# Altium schematic symbol library Schlib1.SchLib: 37 symbols (part 1 of 2)
Pins are listed as number, name and electrical type; pins without a type are passive.

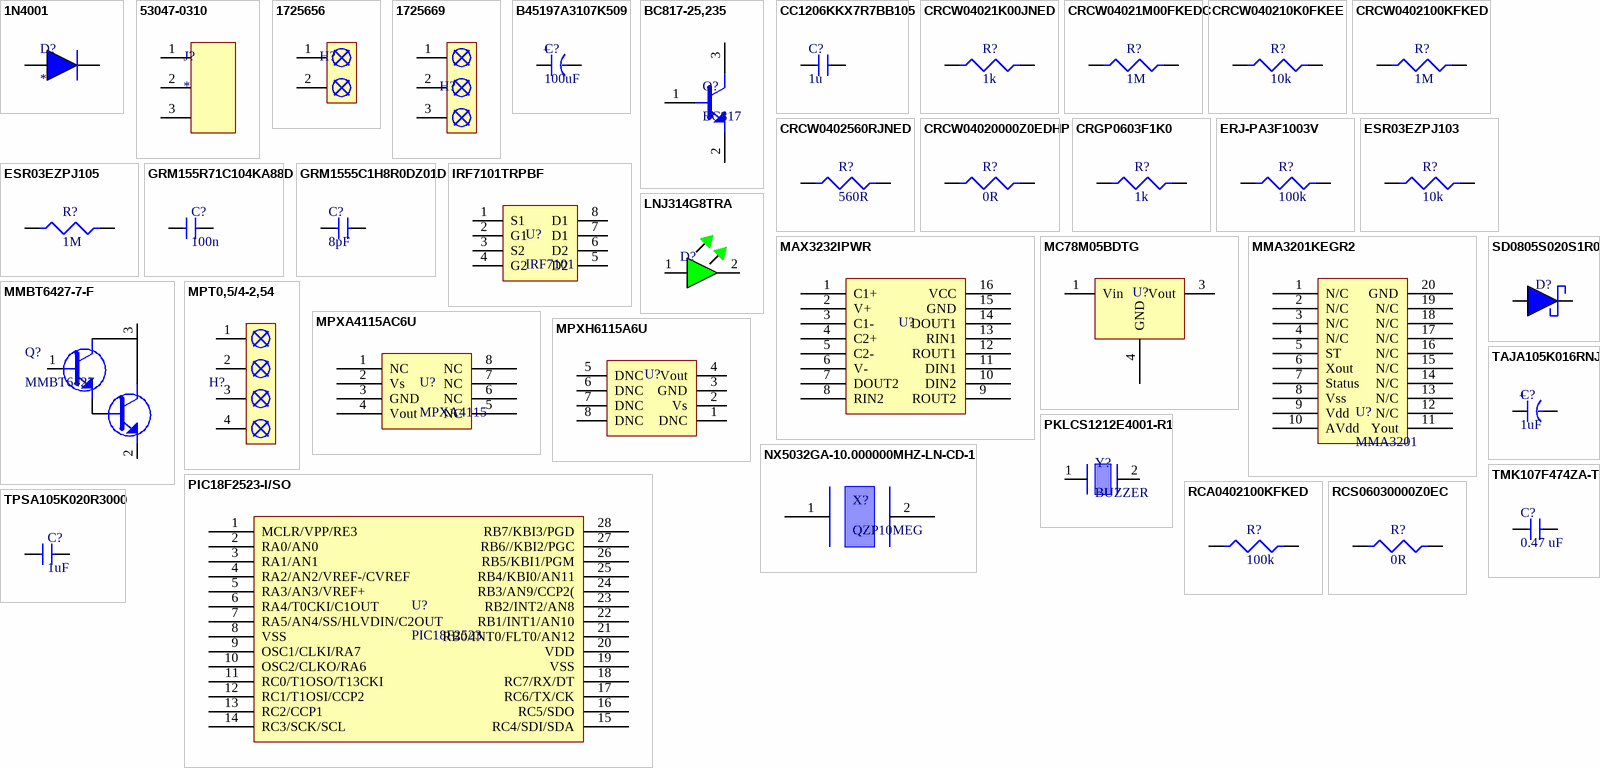
[diagram p0: symbols 1N4001 to TPSA105K020R3000]

## 1N4001
designator D?
Rectifier Diode, 1 Element, 1A, 50V V(RRM), Silicon, DO-41; Manufacturer: Diotec; Manufacturer Part Number: 1N4001; Polarity: Standard; Supplier: Mouser; Supplier Part Number: 637-1N4001; RoHS: Yes; Category: Rectifier Diodes; Stock: 125636; Pricing: 1=0,1, 10=0,055, 50=0,055, 100=0,046, 500=0,028, 1000=0,022, 5000=0,02, 10000=0,016, 25000=0,014, 50000=0,013 (USD); Mounting Technology: Through Hole; Min Operating Temperature: -50°C; Max Operating Temperature: 175°C; Packaging: Ammo Pack; RoHS Compliant: Yes; ComponentLink1URL: https://datasheet.ciiva.com/26325/162213-da-01-ml-1n4001-silizium-diode-de-en-26325273.pdf?src-supplier=Conrad; ComponentLink1Description: https://datasheet.ciiva.com/26325/162213-da-01-ml-1n4001-silizium-diode-de-en-26325273.pdf?src-supplier=Conrad; ComponentLink2URL: https://datasheet.ciiva.com/18711/1n400x-eng-tds-18711212.pdf?src-supplier=Distrelec; ComponentLink2Description: https://datasheet.ciiva.com/18711/1n400x-eng-tds-18711212.pdf?src-supplier=Distrelec
footprint 1N4001_true
pins: 1, 2

## 53047-0310
designator J?
Conn Shrouded Header (4 Sides) HDR 3 POS 1.25mm Solder ST Thru-Hole PicoBlade Tray; Manufacturer: Molex; Manufacturer Part Number: 53047-0310; Body Plating: Tin; Contact Resistance: 20mR; Number of Contacts: 3; Current Rating: 1A; Voltage Rating (AC): 125V; Insulation Resistance: 100MR; Gender: Male; Glow Wire Compliant: Non-compliant; Supplier: Mouser; Supplier Part Number: 538-53047-0310; RoHS: Yes; Category: Headers and Wire Housings; Stock: 37189; Pricing: 1=0,21, 10=0,121, 50=0,121, 100=0,114, 1000=0,107, 10000=0,101 (USD); Mounting Technology: Through Hole; Contact Plating: Tin; Contact Material: Bronze,Tin; Color: Natural; Housing Color: Natural; Housing Material: Polyamide; Plating: Tin; Min Operating Temperature: -40°C; Max Operating Temperature: 85°C; Termination: Solder; Orientation: Vertical; Number of Rows: 1; Packaging: Tray; Package Quantity: 5000; Number of Positions: 3; Series: PicoBlade; Number of Poles: 3; Voltage Rating: 125V; Working Voltage: 125V; Voltage Rating (DC): 125V; Number of Circuits: 3; Pitch: 1.25mm; Lead Pitch: 1.25mm; Radiation Hardening: No; RoHS Compliant: Yes; Lead Free: Lead Free; Flammability Rating: UL94 V-0; Reach SVHC Compliant: No; ComponentLink1URL: https://datasheet.ciiva.com/11746/0900766b800a8aab-11746220.pdf?src-supplier=Rs; ComponentLink1Description: https://datasheet.ciiva.com/11746/0900766b800a8aab-11746220.pdf?src-supplier=Rs; ComponentLink2URL: https://datasheet.ciiva.com/25291/1755268-25291356.pdf?src-supplier=Newark; ComponentLink2Description: https://datasheet.ciiva.com/25291/1755268-25291356.pdf?src-supplier=Newark; ComponentLink3URL: https://datasheet.ciiva.com/5152/0530470310-pcb-headers-170987-5152292.pdf?src-supplier=Mouser; ComponentLink3Description: https://datasheet.ciiva.com/5152/0530470310-pcb-headers-170987-5152292.pdf?src-supplier=Mouser; ComponentLink4URL: https://datasheet.ciiva.com/10090/0530470310-pcb-headers-10090492.pdf?src-supplier=Avnet; ComponentLink4Description: https://datasheet.ciiva.com/10090/0530470310-pcb-headers-10090492.pdf?src-supplier=Avnet; ComponentLink5URL: https://datasheet.ciiva.com/30213/39650530470310-pcb-headers-30213783.pdf?src-supplier=Onlinecomponents.com; ComponentLink5Description: https://datasheet.ciiva.com/30213/39650530470310-pcb-headers-30213783.pdf?src-supplier=Onlinecomponents.com; ComponentLink6URL: https://datasheet.ciiva.com/7810/1755268-7810375.pdf?src-supplier=Element14; ComponentLink6Description: https://datasheet.ciiva.com/7810/1755268-7810375.pdf?src-supplier=Element14; ComponentLink7URL: https://datasheet.ciiva.com/14156/ge116819-116832-e-14156234.pdf?src-supplier=Distrelec; ComponentLink7Description: https://datasheet.ciiva.com/14156/ge116819-116832-e-14156234.pdf?src-supplier=Distrelec
footprint 0530470310
pins: 1, 2, 3

## 1725656
designator H?
Block, Terminal; 6 A; 63 V; 2.54 mm; 26 to 20 AWG; 2; Screw; Soldering; 1.5 kV; Manufacturer: Phoenix Contact; Manufacturer Part Number: 1725656; Number of Poles: 2; Voltage Rating: 125V; Max Current Rating: 6A; Max Supply Voltage: 63V; Number of Levels: 1; Connector Type: Screw,PCB,Terminal Block; Wire Gauge (Max): 26AWG; Wire Gauge (Min): 20AWG; Pitch: 2.54mm; Stripping Length: 4.5mm; Approvals: UL,CSA,cULus,EAC; Supplier 1: Mouser; RoHS: Yes; Category: Terminal Blocks; Stock 1: 18801; Pricing 1: 1=1,66, 10=1,14, 50=1,14, 100=1,14, 1000=1,13, 10000=1,13 (USD); Mount: Through Hole; Number of Pins: 2; Color: Green; Weight: 0.022575oz; Housing Material: Polyamide; Contact Material: Tin; Housing Color: 49Colour; Insulation Material: 4261ConductorMaterial; Termination: Solder; Orientation: Straight; Package Quantity: 50; Packaging: Bulk; Number of Rows: 1; Current Rating: 6A; Number of Positions Per Level: 2; Current: 6A; Voltage: 125V; Number of Positions: 2; Number of Contacts: 2; Number of Circuits: 2; Series: MPT; Length: 5.54mm; Width: 12mm; Height: 6.2mm; Wire/Cable Gauge: 26AWG; Depth: 6.2mm; Radiation Hardening: No; RoHS Compliant: Yes; Reach SVHC Compliant: No; Lead Free: Lead Free; Flammability Rating: UL94 V-0; ComponentLink1URL: https://datasheet.ciiva.com/823/1725656-823793.pdf?src-supplier=Digikey; ComponentLink1Description: https://datasheet.ciiva.com/823/1725656-823793.pdf?src-supplier=Digikey; ComponentLink2URL: https://datasheet.ciiva.com/1120/319957-1120510.pdf?src-supplier=Farnell; ComponentLink2Description: https://datasheet.ciiva.com/1120/319957-1120510.pdf?src-supplier=Farnell; ComponentLink3URL: https://datasheet.ciiva.com/15169/getdatasheetpartid-199323-15169849.pdf?src-supplier=Verical; ComponentLink3Description: https://datasheet.ciiva.com/15169/getdatasheetpartid-199323-15169849.pdf?src-supplier=Verical; ComponentLink4URL: https://datasheet.ciiva.com/16071/1725656-16071846.pdf?src-supplier=Onlinecomponents.com; ComponentLink4Description: https://datasheet.ciiva.com/16071/1725656-16071846.pdf?src-supplier=Onlinecomponents.com; ComponentLink5URL: https://datasheet.ciiva.com/26340/788052-da-01-en-100ntklemme-1725656-250-st-26340907.pdf?src-supplier=Conrad; ComponentLink5Description: https://datasheet.ciiva.com/26340/788052-da-01-en-100ntklemme-1725656-250-st-26340907.pdf?src-supplier=Conrad; Supplier Part Number 1: 651-1725656
footprint MPT 0,5/ 2-2,54
pins: 1, 2

## 1725669
designator H?
Terminal Block Connector; 6 A; 63 V; 2.54 mm; 26 to 20 AWG; 3; Screw; Soldering; 1.5 kV; Manufacturer: Phoenix Contact; Manufacturer Part Number: 1725669; Current Rating: 6A; Number of Poles: 3; Voltage Rating: 125V; Max Supply Voltage: 63V; Number of Levels: 1; Connector Type: Screw,PCB,Terminal Block; Wire/Cable Gauge: 26AWG; Wire Gauge (Min): 20AWG; Pitch: 2.54mm; Stripping Length: 4.5mm; Approvals: UL,CSA,cULus,EAC; Supplier 1: Onlinecomponents.com; RoHS: Yes; Category: Terminal Blocks; Stock 1: 743; Pricing 1: 10=2,04, 100=1,77, 250=1,72, 500=1,68, 1000=1,64, 2500=1,61, 5000=1,59, 7500=1,57 (USD); Mount: Through Hole; Number of Pins: 3; Weight: 0.021658oz; Color: Green; Housing Color: Green; Housing Material: Polyamide; Insulation Material: Nylon; Contact Material: Tin; Package Quantity: 250; Number of Rows: 1; Max Current Rating: 6A; Packaging: Bulk; Number of Positions: 3; Termination: Solder; Number of Positions Per Level: 3; Current: 6A; Voltage: 125V; Number of Contacts: 3; Number of Circuits: 3; Orientation: Straight; Series: MPT; Length: 6.2mm; Width: 13mm; Height: 8.08mm; Wire Gauge (Max): 26AWG; Depth: 6.2mm; Radiation Hardening: No; Reach SVHC Compliant: No; Lead Free: Lead Free; Flammability Rating: UL94 V-0; RoHS Compliant: Yes; ComponentLink1URL: https://datasheet.ciiva.com/823/1725669-823803.pdf?src-supplier=Digikey; ComponentLink1Description: https://datasheet.ciiva.com/823/1725669-823803.pdf?src-supplier=Digikey; ComponentLink2URL: https://datasheet.ciiva.com/1118/1761576-1118544.pdf?src-supplier=Element14; ComponentLink2Description: https://datasheet.ciiva.com/1118/1761576-1118544.pdf?src-supplier=Element14; ComponentLink3URL: https://datasheet.ciiva.com/7053/312657-7053092.pdf?src-supplier=Newark; ComponentLink3Description: https://datasheet.ciiva.com/7053/312657-7053092.pdf?src-supplier=Newark; ComponentLink4URL: https://datasheet.ciiva.com/3969/1725669-3969975.pdf?src-supplier=Arrow+Electronics; ComponentLink4Description: https://datasheet.ciiva.com/3969/1725669-3969975.pdf?src-supplier=Arrow+Electronics; ComponentLink5URL: https://datasheet.ciiva.com/15169/getdatasheetpartid-178016-15169707.pdf?src-supplier=Verical; ComponentLink5Description: https://datasheet.ciiva.com/15169/getdatasheetpartid-178016-15169707.pdf?src-supplier=Verical; ComponentLink6URL: https://datasheet.ciiva.com/16071/1725669-16071848.pdf?src-supplier=Onlinecomponents.com; ComponentLink6Description: https://datasheet.ciiva.com/16071/1725669-16071848.pdf?src-supplier=Onlinecomponents.com; ComponentLink7URL: https://datasheet.ciiva.com/14607/70054336-14607349.pdf?src-supplier=Allied+Electronics; ComponentLink7Description: https://datasheet.ciiva.com/14607/70054336-14607349.pdf?src-supplier=Allied+Electronics; ComponentLink8URL: https://datasheet.ciiva.com/29223/717267-da-01-en-printklemme-1725669-250-st-29223852.pdf?src-supplier=Conrad; ComponentLink8Description: https://datasheet.ciiva.com/29223/717267-da-01-en-printklemme-1725669-250-st-29223852.pdf?src-supplier=Conrad; Supplier Part Number 1: 1725669
footprint MPT 0,5/ 3-2,54
pins: 1, 2, 3

## B45197A3107K509
designator C?, comment 100uF
Cap 100UF 16VDC 10% 7.3 X 4.3 X 4.1MM SMD 7343-43 T/r; Manufacturer: KEMET; Manufacturer Part Number: B45197A3107K509; Dielectric Material: Tantalum; Voltage Rating: 16V; ESR (Equivalent Series Resistance): 100mR; Leakage Current: 16uA; Dissipation Factor: 8%; Supplier 1: Farnell; RoHS: Yes; Category: Tantalum Capacitors; Pricing 1: 1=2,31, 10=1,54, 50=1,07, 100=0,889, 200=0,771, 400=0,66, 2000=0,578 (GBP); Mount: Surface Mount; Case/Package: 2917; Number of Pins: 2; Case Code (Imperial): 2917; Case Code (Metric): 7343; Weight: 0.023634oz; Min Operating Temperature: -55°C; Max Operating Temperature: 125°C; Capacitance: 100uF; Tolerance: 10%; Voltage Rating (DC): 16V; Packaging: Tape and Reel; Termination: SMD/SMT; Series: B45197A; Voltage: 16V; Length: 7.3mm; Width: 4.3mm; Height: 4.4mm; Depth: 4.3mm; RoHS Compliant: Yes; Reach SVHC Compliant: No; Lead Free: Lead Free; ComponentLink1URL: https://datasheet.ciiva.com/5934/58264-5934481.pdf?src-supplier=Farnell; ComponentLink1Description: https://datasheet.ciiva.com/5934/58264-5934481.pdf?src-supplier=Farnell; ComponentLink2URL: https://datasheet.ciiva.com/11793/0900766b809b4274-11793801.pdf?src-supplier=Rs; ComponentLink2Description: https://datasheet.ciiva.com/11793/0900766b809b4274-11793801.pdf?src-supplier=Rs; ComponentLink3URL: https://datasheet.ciiva.com/1464/1761160-1464734.pdf?src-supplier=Element14; ComponentLink3Description: https://datasheet.ciiva.com/1464/1761160-1464734.pdf?src-supplier=Element14; ComponentLink4URL: https://datasheet.ciiva.com/1464/1761160-1464735.pdf?src-supplier=Element14; ComponentLink4Description: https://datasheet.ciiva.com/1464/1761160-1464735.pdf?src-supplier=Element14; Supplier Part Number 1: 9751084
footprint B45197A3107K509
pins: 1, 2
text: +

## BC817-25,235
designator Q?, comment BC817
BC817 Series 45V 500mA SMT NPN General Purpose Transistor - SOT-23; Manufacturer: Nexperia; Manufacturer Part Number: BC817-25,235; Collector Base Voltage (VCBO): 50V; Collector Emitter Saturation Voltage: 700mV; Emitter Base Voltage (VEBO): 5V; hFE Min: 160; Number of Elements: 1; Power Dissipation: 250mW; Supplier 1: Future Electronics; RoHS: Yes; Category: BJTs; Stock 1: 6440000; Pricing 1: 10000=0,0123, 30000=0,0119, 50000=0,0117, 100000=0,0114, 200000=0,011 (USD); Number of Pins: 3; Max Operating Temperature: 150°C; Packaging: Tape and Reel; Polarity: NPN; Collector Emitter Breakdown Voltage: 45V; Collector Emitter Voltage (VCEO): 45V; Max Collector Current: 500mA; Height: 1.1mm; RoHS Compliant: Yes; ComponentLink1URL: https://datasheet.octopart.com/BC817-25%2C235-Nexperia-datasheet-108335331.pdf?src-supplier=Farnell; ComponentLink1Description: https://datasheet.octopart.com/BC817-25%2C235-Nexperia-datasheet-108335331.pdf?src-supplier=Farnell; ComponentLink2URL: https://assets.nexperia.com/documents/data-sheet/BC817_SER.pdf?src-supplier=Digikey; ComponentLink2Description: https://assets.nexperia.com/documents/data-sheet/BC817_SER.pdf?src-supplier=Digikey; Supplier Part Number 1: 3451903
footprint BC817-25,235 (SOT23, 3-Leads, Body 2,90x2,30mm, Pitch 0,95mm, IPC Low Density)
pins: 1, 2, 3

## CC1206KKX7R7BB105
designator C?, comment 1u
Multilayer Ceramic Capacitor, 1 uF, 16 V, ï¿½ 10%, X7R, 1206 [3216 Metric]; Manufacturer: Yageo; Manufacturer Part Number: CC1206KKX7R7BB105; Material: 4241ConductorMaterial; Capacitance: 1uF; Voltage Rating: 16V; Insulation Resistance: 100GR; Supplier 1: Future Electronics; RoHS: Yes; Category: Ceramic Capacitors; Stock 1: 174000; Pricing 1: 3000=0,0252 (USD); Mount: Surface Mount; Case/Package: 1206; Number of Pins: 2; Case Code (Metric): 3216; Case Code (Imperial): 1206; Dielectric Material: Ceramic; Min Operating Temperature: -55°C; Max Operating Temperature: 125°C; Packaging: Tape and Reel; Tolerance: 10%; Voltage Rating (DC): 16V; Package Quantity: 1; Dielectric: X7R; Termination: SMD/SMT; Series: CC; Voltage Rating (AC): 16V; Length: 3.2mm; Width: 0.063inch; Height: 1.15mm; Thickness: 0.045inch; Depth: 1.6mm; Radiation Hardening: No; Reach SVHC Compliant: No; Lead Free: Lead Free; Halogen Free: Halogen Free; RoHS Compliant: Yes; ComponentLink1URL: https://datasheet.ciiva.com/178/mlccorderingcode-178166.pdf?src-supplier=Digikey; ComponentLink1Description: https://datasheet.ciiva.com/178/mlccorderingcode-178166.pdf?src-supplier=Digikey; ComponentLink2URL: https://datasheet.ciiva.com/178/mlccorderingcode-178167.pdf?src-supplier=Digikey; ComponentLink2Description: https://datasheet.ciiva.com/178/mlccorderingcode-178167.pdf?src-supplier=Digikey; ComponentLink3URL: https://datasheet.ciiva.com/178/mlccorderingcode-178168.pdf?src-supplier=Digikey; ComponentLink3Description: https://datasheet.ciiva.com/178/mlccorderingcode-178168.pdf?src-supplier=Digikey; ComponentLink4URL: https://datasheet.ciiva.com/7978/1489800-7978229.pdf?src-supplier=Element14; ComponentLink4Description: https://datasheet.ciiva.com/7978/1489800-7978229.pdf?src-supplier=Element14; ComponentLink5URL: https://datasheet.ciiva.com/11464/upy-gphc-x7r-6-3v-to-50v-8-11464763.pdf?src-supplier=Avnet; ComponentLink5Description: https://datasheet.ciiva.com/11464/upy-gphc-x7r-6-3v-to-50v-8-11464763.pdf?src-supplier=Avnet; Supplier Part Number 1: 9057753
footprint CC1206KKX7R7BB105
pins: 1, 2

## CRCW04021K00JNED
designator R?, comment 1k
Res Thick Film 0402 1K Ohm 5% 1/16W ±200ppm/°C Molded SMD SMD Paper T/R; Manufacturer: Vishay Dale; Manufacturer Part Number: CRCW04021K00JNED; Resistance: 1kR; Max Power Dissipation: 63mW; Voltage Rating: 50V; Supplier 1: Mouser; RoHS: Yes; Category: Chip SMD Resistors; Stock 1: 255010; Pricing 1: 1=0,1, 10=0,016, 50=0,016, 100=0,009, 1000=0,008, 2500=0,006, 10000=0,004, 20000=0,003 (USD); Case/Package: 0402; Number of Pins: 2; Case Code (Imperial): 0402; Case Code (Metric): 1005; Weight: 2.3E-05oz; Contact Plating: Tin; Min Operating Temperature: -55°C; Max Operating Temperature: 155°C; Packaging: Tape and Reel; Tolerance: 5%; Number of Terminations: 2; Temperature Coefficient: 200ppm/°C; Series: CRCW; Power Rating: 63mW; Package Quantity: 1; Termination: SMD/SMT; Features: Automotive AEC-Q200; Technology: THICK FILM; Resistor Type: Thick Film; Working Voltage: 50V; Resistance Tolerance: 5%; Construction: Rectangular; Voltage Rating (DC): 50V; Length: 1mm; Width: 0.02inch; Height: 0.016inch; Depth: 0.5mm; Ratings: AEC-Q200; Radiation Hardening: No; RoHS Compliant: Yes; Lead Free: Lead Free; Military Standard: Not; Reach SVHC Compliant: Unknown; ComponentLink1URL: https://datasheet.ciiva.com/2462/dcrcwe3-2462076.pdf?src-supplier=Digikey; ComponentLink1Description: https://datasheet.ciiva.com/2462/dcrcwe3-2462076.pdf?src-supplier=Digikey; ComponentLink2URL: https://datasheet.ciiva.com/2462/dcrcwe3-2462077.pdf?src-supplier=Digikey; ComponentLink2Description: https://datasheet.ciiva.com/2462/dcrcwe3-2462077.pdf?src-supplier=Digikey; ComponentLink3URL: https://datasheet.ciiva.com/2462/dcrcwe3-2462078.pdf?src-supplier=Digikey; ComponentLink3Description: https://datasheet.ciiva.com/2462/dcrcwe3-2462078.pdf?src-supplier=Digikey; ComponentLink4URL: https://datasheet.ciiva.com/7743/dcrcwe3-7743478.pdf?src-supplier=Element14; ComponentLink4Description: https://datasheet.ciiva.com/7743/dcrcwe3-7743478.pdf?src-supplier=Element14; ComponentLink5URL: https://datasheet.ciiva.com/5545/dcrcwe3-109170-5545913.pdf?src-supplier=Mouser; ComponentLink5Description: https://datasheet.ciiva.com/5545/dcrcwe3-109170-5545913.pdf?src-supplier=Mouser; ComponentLink6URL: https://datasheet.ciiva.com/28621/1847332-28621342.pdf?src-supplier=Element14; ComponentLink6Description: https://datasheet.ciiva.com/28621/1847332-28621342.pdf?src-supplier=Element14; ComponentLink7URL: https://datasheet.ciiva.com/16199/dcrcwe3-16199256.pdf?src-supplier=Future+Electronics; ComponentLink7Description: https://datasheet.ciiva.com/16199/dcrcwe3-16199256.pdf?src-supplier=Future+Electronics; ComponentLink8URL: https://datasheet.ciiva.com/16778/70201119-16778053.pdf?src-supplier=Allied+Electronics; ComponentLink8Description: https://datasheet.ciiva.com/16778/70201119-16778053.pdf?src-supplier=Allied+Electronics; Supplier Part Number 1: 71-CRCW0402J-1.0K-E3
footprint CRCW04021K00JNED
pins: 1, 2

## CRCW04021M00FKEDC
designator R?, comment 1M
Res Thick Film 0402 1M Ohm 1% 0.063W(1/16W) ±100ppm/C Pad SMD T/R; Manufacturer: Vishay Semiconductors; Manufacturer Part Number: CRCW04021M00FKEDC; Max Power Dissipation: 63mW; Resistance: 1MR; Temperature Coefficient: 100ppm/°C; Voltage Rating: 50V; Supplier 1: Mouser; RoHS: Yes; Category: Chip SMD Resistors; Stock 1: 316158; Pricing 1: 1=0,1, 10=0,016, 50=0,016, 100=0,009, 1000=0,007, 2500=0,005, 10000=0,003 (USD); Case/Package: 0402; Min Operating Temperature: -55°C; Max Operating Temperature: 155°C; Series: CRCW-C; Packaging: Tape and Reel; Tolerance: 1%; Number of Terminations: 2; Height: 350um; RoHS Compliant: Yes; Lead Free: 5697LeadFree; ComponentLink1URL: http://www.vishay.com/docs/28773/crcwce3.pdf?src-supplier=Digikey; ComponentLink1Description: http://www.vishay.com/docs/28773/crcwce3.pdf?src-supplier=Digikey; ComponentLink2URL: https://datasheet.octopart.com/CRCW04021M00FKEDC-Vishay-datasheet-100063072.pdf?src-supplier=Future+Electronics; ComponentLink2Description: https://datasheet.octopart.com/CRCW04021M00FKEDC-Vishay-datasheet-100063072.pdf?src-supplier=Future+Electronics; Supplier Part Number 1: 71-CRCW04021M00FKEDC
footprint CRCW04021M00FKED
pins: 1, 2

## CRCW040210K0FKEE
designator R?, comment 10k
SMD Chip Resistor, 10 kOhm, ± 1%, 63 mW, 0402 [1005 Metric], Thick Film, General Purpose; Manufacturer: Vishay Dale; Manufacturer Part Number: CRCW040210K0FKEE; Resistance: 10kR; Voltage Rating: 50V; Max Power Dissipation: 63mW; Temperature Coefficient: 100ppm/°C; Supplier 1: Mouser; RoHS: Yes; Category: Chip SMD Resistors; Stock 1: 91105; Pricing 1: 1=0,1, 10=0,017, 50=0,017, 100=0,01, 1000=0,008, 2500=0,006, 10000=0,006, 50000=0,005, 100000=0,003 (USD); Case/Package: 0402; Case Code (Metric): 1005; Case Code (Imperial): 0402; Contact Plating: Tin; Min Operating Temperature: -55°C; Max Operating Temperature: 155°C; Tolerance: 1%; Packaging: Tape and Reel; Series: CRCW; Number of Terminations: 2; Features: Automotive AEC-Q200; Voltage Rating (DC): 50V; Ratings: AEC-Q200; Radiation Hardening: No; RoHS Compliant: Yes; Lead Free: Lead Free; ComponentLink1URL: https://datasheet.ciiva.com/9052/dcrcwe3-9052542.pdf?src-supplier=Avnet; ComponentLink1Description: https://datasheet.ciiva.com/9052/dcrcwe3-9052542.pdf?src-supplier=Avnet; Supplier Part Number 1: 71-CRCW040210K0FKEE
footprint CRCW040210K0FKTD
pins: 1, 2

## CRCW0402100KFKED
designator R?, comment 1M
Res Thick Film 0402 1M Ohm 1% 1/16W ±100ppm/°C Molded SMD Paper T/R; Manufacturer: Vishay; Manufacturer Part Number: CRCW0402100KFKED; Resistance: 100kR; Voltage Rating: 50V; Max Power Dissipation: 63mW; Supplier 1: Mouser; RoHS: Yes; Category: Chip SMD Resistors; Stock 1: 171823; Pricing 1: 1=0,1, 10=0,017, 50=0,017, 100=0,01, 1000=0,008, 2500=0,006, 10000=0,005, 20000=0,004, 50000=0,003 (USD); Case/Package: 0402; Number of Pins: 2; Case Code (Metric): 1005; Case Code (Imperial): 0402; Weight: 2.3E-05oz; Contact Plating: Tin; Size Code: 0402; Min Operating Temperature: -55°C; Max Operating Temperature: 155°C; Tolerance: 1%; Packaging: Tape and Reel; Number of Terminations: 2; Temperature Coefficient: 100ppm/°C; Series: CRCW; Power Rating: 63mW; Resistor Type: Thick Film; Package Quantity: 10000; Termination: SMD/SMT; Voltage Rating (DC): 50V; Features: Automotive AEC-Q200; Technology: THICK FILM; Resistance Tolerance: 1%; Construction: Rectangular; Length: 1mm; Width: 0.5mm; Height: 0.35mm; Depth: 0.5mm; Ratings: AEC-Q200; Radiation Hardening: No; RoHS Compliant: Yes; Lead Free: 5697LeadFree; Reach SVHC Compliant: Unknown; Military Standard: Not; ComponentLink1URL: https://datasheet.ciiva.com/2463/dcrcwe3-2463064.pdf?src-supplier=Digikey; ComponentLink1Description: https://datasheet.ciiva.com/2463/dcrcwe3-2463064.pdf?src-supplier=Digikey; ComponentLink2URL: https://datasheet.ciiva.com/2463/dcrcwe3-2463065.pdf?src-supplier=Digikey; ComponentLink2Description: https://datasheet.ciiva.com/2463/dcrcwe3-2463065.pdf?src-supplier=Digikey; ComponentLink3URL: https://datasheet.ciiva.com/2463/dcrcwe3-2463066.pdf?src-supplier=Digikey; ComponentLink3Description: https://datasheet.ciiva.com/2463/dcrcwe3-2463066.pdf?src-supplier=Digikey; ComponentLink4URL: https://datasheet.ciiva.com/3255/dcrcwe3-3255947.pdf?src-supplier=Avnet; ComponentLink4Description: https://datasheet.ciiva.com/3255/dcrcwe3-3255947.pdf?src-supplier=Avnet; ComponentLink5URL: https://datasheet.ciiva.com/3255/dcrcwe3-3255948.pdf?src-supplier=Avnet; ComponentLink5Description: https://datasheet.ciiva.com/3255/dcrcwe3-3255948.pdf?src-supplier=Avnet; Supplier Part Number 1: 71-CRCW0402-100K-E3; Supplier 2: Mouser; Stock 2: 572096; Pricing 2: 1=0,1, 10=0,015, 50=0,015, 100=0,01, 1000=0,009, 2500=0,007, 10000=0,004 (USD); ComponentLink6URL: https://datasheet.ciiva.com/11809/0900766b80d98824-11809936.pdf?src-supplier=Rs; ComponentLink6Description: https://datasheet.ciiva.com/11809/0900766b80d98824-11809936.pdf?src-supplier=Rs; ComponentLink7URL: https://datasheet.ciiva.com/2463/dcrcwe3-2463361.pdf?src-supplier=Digikey; ComponentLink7Description: https://datasheet.ciiva.com/2463/dcrcwe3-2463361.pdf?src-supplier=Digikey; ComponentLink8URL: https://datasheet.ciiva.com/2463/dcrcwe3-2463362.pdf?src-supplier=Digikey; ComponentLink8Description: https://datasheet.ciiva.com/2463/dcrcwe3-2463362.pdf?src-supplier=Digikey; ComponentLink9URL: https://datasheet.ciiva.com/2463/dcrcwe3-2463363.pdf?src-supplier=Digikey; ComponentLink9Description: https://datasheet.ciiva.com/2463/dcrcwe3-2463363.pdf?src-supplier=Digikey; ComponentLink10URL: https://datasheet.ciiva.com/3256/dcrcwe3-3256184.pdf?src-supplier=Avnet; ComponentLink10Description: https://datasheet.ciiva.com/3256/dcrcwe3-3256184.pdf?src-supplier=Avnet; ComponentLink11URL: https://datasheet.ciiva.com/3256/dcrcwe3-3256185.pdf?src-supplier=Avnet; ComponentLink11Description: https://datasheet.ciiva.com/3256/dcrcwe3-3256185.pdf?src-supplier=Avnet; ComponentLink12URL: https://datasheet.ciiva.com/7841/1697337-7841486.pdf?src-supplier=Element14; ComponentLink12Description: https://datasheet.ciiva.com/7841/1697337-7841486.pdf?src-supplier=Element14; ComponentLink13URL: https://datasheet.ciiva.com/7841/1697337-7841806.pdf?src-supplier=Element14; ComponentLink13Description: https://datasheet.ciiva.com/7841/1697337-7841806.pdf?src-supplier=Element14; ComponentLink14URL: https://datasheet.ciiva.com/26316/fld-crcw-e3-data-en-26316602.pdf?src-supplier=Distrelec; ComponentLink14Description: https://datasheet.ciiva.com/26316/fld-crcw-e3-data-en-26316602.pdf?src-supplier=Distrelec; ComponentLink15URL: https://datasheet.ciiva.com/5548/dcrcwe3-109170-5548277.pdf?src-supplier=Mouser; ComponentLink15Description: https://datasheet.ciiva.com/5548/dcrcwe3-109170-5548277.pdf?src-supplier=Mouser; ComponentLink16URL: https://datasheet.ciiva.com/26821/getdatasheetpartid-50834-26821015.pdf?src-supplier=Verical; ComponentLink16Description: https://datasheet.ciiva.com/26821/getdatasheetpartid-50834-26821015.pdf?src-supplier=Verical; ComponentLink17URL: https://datasheet.ciiva.com/16724/70201119-16724238.pdf?src-supplier=Allied+Electronics; ComponentLink17Description: https://datasheet.ciiva.com/16724/70201119-16724238.pdf?src-supplier=Allied+Electronics; ComponentLink18URL: https://datasheet.ciiva.com/16767/70201119-16767639.pdf?src-supplier=Allied+Electronics; ComponentLink18Description: https://datasheet.ciiva.com/16767/70201119-16767639.pdf?src-supplier=Allied+Electronics; ComponentLink19URL: https://datasheet.ciiva.com/16211/dcrcwe3-16211596.pdf?src-supplier=Future+Electronics; ComponentLink19Description: https://datasheet.ciiva.com/16211/dcrcwe3-16211596.pdf?src-supplier=Future+Electronics; Supplier Part Number 2: 71-CRCW0402-1.0M-E3
footprint CRCW0402100KFKED
pins: 1, 2

## CRCW0402560RJNED
designator R?, comment 560R
SMD Chip Resistor, 560 Ohm, ± 5%, 63 mW, 0402 [1005 Metric], Thick Film, General Purpose; Manufacturer: Vishay Dale; Manufacturer Part Number: CRCW0402560RJNED; Power Rating: 63mW; Temperature Coefficient: 200ppm/°C; Voltage Rating: 50V; Supplier 1: Mouser; RoHS: Yes; Category: Chip SMD Resistors; Stock 1: 36463; Pricing 1: 1=0,1, 10=0,015, 50=0,015, 100=0,009, 1000=0,007, 2500=0,006, 10000=0,004 (USD); Case/Package: 0402; Number of Pins: 2; Case Code (Metric): 1005; Case Code (Imperial): 0402; Contact Plating: Tin; Weight: 2.3E-05oz; Size Code: 0402; Min Operating Temperature: -55°C; Max Operating Temperature: 155°C; Resistance: 560R; Packaging: Cut Tape; Tolerance: 5%; Package Quantity: 10000; Resistor Type: Thick Film; Number of Terminations: 2; Max Power Dissipation: 63mW; Features: Automotive AEC-Q200; Series: CRCW; Voltage Rating (DC): 50V; Resistance Tolerance: 5%; Length: 1mm; Width: 0.5mm; Height: 0.35mm; Ratings: AEC-Q200; Radiation Hardening: No; Lead Free: Lead Free; RoHS Compliant: Yes; Reach SVHC Compliant: Unknown; ComponentLink1URL: https://datasheet.ciiva.com/2524/dcrcwe3-2524414.pdf?src-supplier=Digikey; ComponentLink1Description: https://datasheet.ciiva.com/2524/dcrcwe3-2524414.pdf?src-supplier=Digikey; ComponentLink2URL: https://datasheet.ciiva.com/2524/dcrcwe3-2524415.pdf?src-supplier=Digikey; ComponentLink2Description: https://datasheet.ciiva.com/2524/dcrcwe3-2524415.pdf?src-supplier=Digikey; ComponentLink3URL: https://datasheet.ciiva.com/2524/dcrcwe3-2524416.pdf?src-supplier=Digikey; ComponentLink3Description: https://datasheet.ciiva.com/2524/dcrcwe3-2524416.pdf?src-supplier=Digikey; ComponentLink4URL: https://datasheet.ciiva.com/3256/dcrcwe3-3256649.pdf?src-supplier=Avnet; ComponentLink4Description: https://datasheet.ciiva.com/3256/dcrcwe3-3256649.pdf?src-supplier=Avnet; ComponentLink5URL: https://datasheet.ciiva.com/3256/dcrcwe3-3256650.pdf?src-supplier=Avnet; ComponentLink5Description: https://datasheet.ciiva.com/3256/dcrcwe3-3256650.pdf?src-supplier=Avnet; ComponentLink6URL: https://datasheet.ciiva.com/16436/dcrcwe3-16436119.pdf?src-supplier=Future+Electronics; ComponentLink6Description: https://datasheet.ciiva.com/16436/dcrcwe3-16436119.pdf?src-supplier=Future+Electronics; ComponentLink7URL: https://datasheet.ciiva.com/5548/dcrcwe3-109170-5548972.pdf?src-supplier=Mouser; ComponentLink7Description: https://datasheet.ciiva.com/5548/dcrcwe3-109170-5548972.pdf?src-supplier=Mouser; Supplier Part Number 1: 71-CRCW0402J-560-E3
footprint CRCW0402560RJNED
pins: 1, 2

## CRCW04020000Z0EDHP
designator R?, comment 0R
Zero Ohm Resistor, Jumper, 0402 [1005 Metric], Thick Film, 63 mW, Surface Mount; Manufacturer: Vishay Dale; Manufacturer Part Number: CRCW04020000Z0EDHP; Voltage Rating: 50V; Max Power Dissipation: 125mW; Power Rating: 200mW; Temperature Coefficient: 0ppm/°C; Supplier 1: Mouser; RoHS: Yes; Category: Chip SMD Resistors; Stock 1: 983544; Pricing 1: 1=0,1, 10=0,035, 50=0,035, 100=0,021, 1000=0,016, 2500=0,012, 10000=0,009, 50000=0,008 (USD); Case/Package: 0402; Case Code (Metric): 1005; Case Code (Imperial): 0402; Contact Plating: Tin; Weight: 2.3E-05oz; Size Code: 0402; Min Operating Temperature: -55°C; Max Operating Temperature: 155°C; Resistance: 0R; Packaging: Tape and Reel; Number of Terminations: 2; Series: CRCW-HP; Package Quantity: 1; Resistor Type: Thick Film; Termination: SMD/SMT; Voltage Rating (DC): 50V; Features: Automotive AEC-Q200; Technology: THICK FILM; Length: 1mm; Width: 0.02inch; Height: 0.3mm; Depth: 0.5mm; Ratings: AEC-Q200; Radiation Hardening: No; RoHS Compliant: Yes; Lead Free: 5697LeadFree; Reach SVHC Compliant: Unknown; ComponentLink1URL: https://datasheet.ciiva.com/2470/crcwhpe3-2470555.pdf?src-supplier=Digikey; ComponentLink1Description: https://datasheet.ciiva.com/2470/crcwhpe3-2470555.pdf?src-supplier=Digikey; ComponentLink2URL: https://datasheet.ciiva.com/2470/crcwhpe3-2470556.pdf?src-supplier=Digikey; ComponentLink2Description: https://datasheet.ciiva.com/2470/crcwhpe3-2470556.pdf?src-supplier=Digikey; ComponentLink3URL: https://datasheet.ciiva.com/2470/crcwhpe3-2470557.pdf?src-supplier=Digikey; ComponentLink3Description: https://datasheet.ciiva.com/2470/crcwhpe3-2470557.pdf?src-supplier=Digikey; ComponentLink4URL: https://datasheet.ciiva.com/9109/crcwhpe3-9109963.pdf?src-supplier=Avnet; ComponentLink4Description: https://datasheet.ciiva.com/9109/crcwhpe3-9109963.pdf?src-supplier=Avnet; ComponentLink5URL: https://datasheet.ciiva.com/28621/1912814-28621324.pdf?src-supplier=Element14; ComponentLink5Description: https://datasheet.ciiva.com/28621/1912814-28621324.pdf?src-supplier=Element14; ComponentLink6URL: https://datasheet.ciiva.com/16494/crcwhpe3-16494453.pdf?src-supplier=Future+Electronics; ComponentLink6Description: https://datasheet.ciiva.com/16494/crcwhpe3-16494453.pdf?src-supplier=Future+Electronics; ComponentLink7URL: https://datasheet.ciiva.com/7725/crcwhpe3-7725758.pdf?src-supplier=Element14; ComponentLink7Description: https://datasheet.ciiva.com/7725/crcwhpe3-7725758.pdf?src-supplier=Element14; ComponentLink8URL: https://datasheet.ciiva.com/5562/crcwhpe3-46056-5562315.pdf?src-supplier=Mouser; ComponentLink8Description: https://datasheet.ciiva.com/5562/crcwhpe3-46056-5562315.pdf?src-supplier=Mouser; Supplier Part Number 1: 71-CRCW04020000Z0EDH
footprint CRCW04020000Z0ED
pins: 1, 2

## CRGP0603F1K0
designator R?, comment 1k
Res Thick Film 0603 1K Ohm 1% 0.25W(1/4W) ±100ppm/C Pad SMD T/R Automotive AEC-Q200; Manufacturer: TE Connectivity; Manufacturer Part Number: CRGP0603F1K0; Resistance: 1kR; Max Power Dissipation: 250mW; Temperature Coefficient: 100ppm/°C; Voltage Rating: 50V; Supplier 1: Digikey; RoHS: Yes; Category: Chip SMD Resistors; Stock 1: 102336; Pricing 1: 1=0,17, 10=0,085, 50=0,0562, 100=0,048, 500=0,0344, 1000=0,03036, 5000=0,02367, 10000=0,02164, 15000=0,02063, 25000=0,01953, 35000=0,01888, 50000=0,01826, 125000=0,01695, 250000=0,01616, 500000=0,01561 (USD); Case/Package: 0603; Min Operating Temperature: -55°C; Max Operating Temperature: 155°C; Series: CRGP; Packaging: Tape and Reel; Tolerance: 1%; Number of Terminations: 2; Power Rating: 250mW; Voltage Rating (DC): 50V; Operating Supply Voltage: 50V; Height: 550um; RoHS Compliant: Yes; ComponentLink1URL: https://www.te.com/commerce/DocumentDelivery/DDEController?Action=srchrtrv&amp;DocNm=9-1773463-9&amp;DocType=DS&amp;DocLang=English&src-supplier=Digikey; ComponentLink1Description: https://www.te.com/commerce/DocumentDelivery/DDEController?Action=srchrtrv&amp;DocNm=9-1773463-9&amp;DocType=DS&amp;DocLang=English&src-supplier=Digikey; ComponentLink2URL: https://datasheet.octopart.com/CRGP0603F1K0-TE-Connectivity-datasheet-114718804.pdf?src-supplier=Farnell; ComponentLink2Description: https://datasheet.octopart.com/CRGP0603F1K0-TE-Connectivity-datasheet-114718804.pdf?src-supplier=Farnell; ComponentLink3URL: https://datasheet.octopart.com/CRGP0603F1K0-TE-Connectivity-datasheet-114718804.pdf?src-supplier=Master+Electronics; ComponentLink3Description: https://datasheet.octopart.com/CRGP0603F1K0-TE-Connectivity-datasheet-114718804.pdf?src-supplier=Master+Electronics; ComponentLink4URL: https://datasheet.octopart.com/2-2176326-5-TE-Connectivity-datasheet-156004650.pdf?src-supplier=TME; ComponentLink4Description: https://datasheet.octopart.com/2-2176326-5-TE-Connectivity-datasheet-156004650.pdf?src-supplier=TME; Supplier Part Number 1: A130416CT-ND
footprint MCT0603PD1001DP500
pins: 1, 2

## ERJ-PA3F1003V
designator R?, comment 100k
SMD Chip Resistor, 100 kOhm, ± 1%, 250 mW, 0603 [1608 Metric], Thick Film, Anti-Surge; Manufacturer: Panasonic; Manufacturer Part Number: ERJ-PA3F1003V; Resistance: 100kR; Power Rating: 250mW; Voltage Rating: 150V; Temperature Coefficient: 100ppm/°C; Supplier 1: Digikey; RoHS: Yes; Category: Chip SMD Resistors; Stock 1: 59135; Pricing 1: 1=0,14, 10=0,071, 50=0,0468, 100=0,0397, 500=0,0282, 1000=0,02477 (USD); Mount: Surface Mount; Case/Package: 0603; Case Code (Metric): 1608; Case Code (Imperial): 0603; Min Operating Temperature: -55°C; Max Operating Temperature: 155°C; Tolerance: 1%; Resistor Type: Thick Film; Packaging: Cut Tape; Number of Terminations: 2; Termination: Solder; Max Power Dissipation: 250mW; Voltage Rating (DC): 150V; Features: Automotive AEC-Q200; Series: ERJ; Resistance Tolerance: 1%; Technology: THICK FILM; Length: 0.063inch; Width: 0.031inch; Height: 0.018inch; Depth: 0.8mm; Ratings: AEC-Q200; Reach SVHC Compliant: No; ComponentLink1URL: https://datasheet.ciiva.com/22781/1801181-22781557.pdf?src-supplier=Farnell; ComponentLink1Description: https://datasheet.ciiva.com/22781/1801181-22781557.pdf?src-supplier=Farnell; ComponentLink2URL: https://datasheet.ciiva.com/49048/1801181-49048299.pdf?src-supplier=Element14; ComponentLink2Description: https://datasheet.ciiva.com/49048/1801181-49048299.pdf?src-supplier=Element14; Supplier Part Number 1: P100KBYCT-ND
footprint MCT0603PD1003DP500
pins: 1, 2

## ESR03EZPJ103
designator R?, comment 10k
Res Thick Film 0603 10K Ohm 5% 0.25W(1/4W) ±200ppm/C Epoxy Resin Pad SMD Automotive T/R; Manufacturer: Rohm; Manufacturer Part Number: ESR03EZPJ103; Resistance: 10kR; Power Rating: 250mW; Temperature Coefficient: 200ppm/°C; Voltage Rating: 150V; Supplier 1: Future Electronics; RoHS: Yes; Category: Chip SMD Resistors; Stock 1: 30000; Pricing 1: 5000=0,0114, 20000=0,0109, 75000=0,0104, 125000=0,0102, 250000=0,0096 (USD); Case/Package: 0603; Case Code (Metric): 1608; Case Code (Imperial): 0603; Min Operating Temperature: -55°C; Max Operating Temperature: 155°C; Tolerance: 5%; Package Quantity: 1; Packaging: Cut Tape; Number of Terminations: 2; Max Power Dissipation: 250mW; Series: ESR03; Voltage Rating (DC): 150V; Length: 0.063inch; Width: 0.031inch; Height: 0.022inch; Lead Free: Lead Free; RoHS Compliant: Yes; ComponentLink1URL: https://datasheet.ciiva.com/2468/esr-2468823.pdf?src-supplier=Digikey; ComponentLink1Description: https://datasheet.ciiva.com/2468/esr-2468823.pdf?src-supplier=Digikey; ComponentLink2URL: https://datasheet.ciiva.com/2468/esr-2468824.pdf?src-supplier=Digikey; ComponentLink2Description: https://datasheet.ciiva.com/2468/esr-2468824.pdf?src-supplier=Digikey; ComponentLink3URL: https://datasheet.ciiva.com/2468/esr-2468825.pdf?src-supplier=Digikey; ComponentLink3Description: https://datasheet.ciiva.com/2468/esr-2468825.pdf?src-supplier=Digikey; Supplier Part Number 1: 2679652
footprint ESR03EZPJ103
pins: 1, 2

## ESR03EZPJ105
designator R?, comment 1M
Res Thick Film 0603 1M Ohm 5% 0.25W(1/4W) ±200ppm/C Pad SMD Automotive T/R; Manufacturer: Rohm; Manufacturer Part Number: ESR03EZPJ105; Resistance: 1MR; Max Power Dissipation: 250mW; Temperature Coefficient: 200ppm/°C; Voltage Rating: 150V; Supplier 1: Digikey; RoHS: Yes; Category: Chip SMD Resistors; Stock 1: 153059; Pricing 1: 1=0,14, 10=0,068, 50=0,0446, 100=0,0379, 500=0,02686, 1000=0,02357, 5000=0,0181, 10000=0,01644, 15000=0,01561, 25000=0,01469, 35000=0,01416, 50000=0,01364, 125000=0,01254, 250000=0,01188, 500000=0,01134 (USD); Case/Package: 0603; Case Code (Metric): 1608; Case Code (Imperial): 0603; Min Operating Temperature: -55°C; Max Operating Temperature: 155°C; Package Quantity: 1; Packaging: Cut Tape; Tolerance: 5%; Number of Terminations: 2; Features: Automotive AEC-Q200; Series: ESR; Length: 0.063inch; Width: 0.031inch; Height: 0.022inch; RoHS Compliant: Yes; ComponentLink1URL: https://datasheet.ciiva.com/14928/esr-14928814.pdf?src-supplier=Digikey; ComponentLink1Description: https://datasheet.ciiva.com/14928/esr-14928814.pdf?src-supplier=Digikey; ComponentLink2URL: https://datasheet.ciiva.com/14930/esr-14930634.pdf?src-supplier=Digikey; ComponentLink2Description: https://datasheet.ciiva.com/14930/esr-14930634.pdf?src-supplier=Digikey; ComponentLink3URL: https://datasheet.ciiva.com/14924/esr-14924812.pdf?src-supplier=Digikey; ComponentLink3Description: https://datasheet.ciiva.com/14924/esr-14924812.pdf?src-supplier=Digikey; Supplier Part Number 1: RHM1MDCT-ND
footprint ESR03EZPJ105
pins: 1, 2

## GRM155R71C104KA88D
designator C?, comment 100n
Multilayer Ceramic Capacitor, 0.1 uF, 16 V, ï¿½ 10%, X7R, 0402 [1005 Metric]; Manufacturer: Murata; Manufacturer Part Number: GRM155R71C104KA88D; Dielectric Material: 4241ConductorMaterial; Capacitance: 100nF; Voltage Rating: 16V; Supplier 1: Future Electronics; RoHS: Yes; Category: Ceramic Capacitors; Stock 1: 33520000; Pricing 1: 10000=0,0044, 40000=0,0043, 100000=0,0042, 250000=0,004, 400000=0,0039 (USD); Mount: Surface Mount; Case/Package: 0402; Number of Pins: 2; Case Code (Metric): 1005; Case Code (Imperial): 0402; Material: Ceramic; Min Operating Temperature: -55°C; Max Operating Temperature: 125°C; Tolerance: 10%; Packaging: Tape and Reel; Voltage Rating (DC): 16V; Package Quantity: 1; Dielectric: X7R; Termination: SMD/SMT; Voltage: 16V; Series: GRM; Length: 1mm; Width: 0.02inch; Height: 0.5mm; Thickness: 0.022inch; Depth: 0.5mm; Radiation Hardening: No; Lead Free: Lead Free; RoHS Compliant: Yes; Reach SVHC Compliant: Unknown; ComponentLink1URL: https://datasheet.ciiva.com/129/grm155r71c104ka88-01-129739.pdf?src-supplier=Digikey; ComponentLink1Description: https://datasheet.ciiva.com/129/grm155r71c104ka88-01-129739.pdf?src-supplier=Digikey; ComponentLink2URL: https://datasheet.ciiva.com/129/grm155r71c104ka88-01-129740.pdf?src-supplier=Digikey; ComponentLink2Description: https://datasheet.ciiva.com/129/grm155r71c104ka88-01-129740.pdf?src-supplier=Digikey; ComponentLink3URL: https://datasheet.ciiva.com/18102/getdatasheetpartid-85307-18102905.pdf?src-supplier=Verical; ComponentLink3Description: https://datasheet.ciiva.com/18102/getdatasheetpartid-85307-18102905.pdf?src-supplier=Verical; ComponentLink4URL: https://datasheet.ciiva.com/29199/454098-da-01-en-vs-kondensator-0402-29199799.pdf?src-supplier=Conrad; ComponentLink4Description: https://datasheet.ciiva.com/29199/454098-da-01-en-vs-kondensator-0402-29199799.pdf?src-supplier=Conrad; ComponentLink5URL: https://datasheet.ciiva.com/7937/4360-7937615.pdf?src-supplier=Element14; ComponentLink5Description: https://datasheet.ciiva.com/7937/4360-7937615.pdf?src-supplier=Element14; ComponentLink6URL: https://datasheet.ciiva.com/28534/4360-28534127.pdf?src-supplier=Element14; ComponentLink6Description: https://datasheet.ciiva.com/28534/4360-28534127.pdf?src-supplier=Element14; ComponentLink7URL: https://datasheet.ciiva.com/28534/4360-28534133.pdf?src-supplier=Element14; ComponentLink7Description: https://datasheet.ciiva.com/28534/4360-28534133.pdf?src-supplier=Element14; ComponentLink8URL: https://datasheet.ciiva.com/16199/product-16199000.pdf?src-supplier=Future+Electronics; ComponentLink8Description: https://datasheet.ciiva.com/16199/product-16199000.pdf?src-supplier=Future+Electronics; ComponentLink9URL: https://datasheet.ciiva.com/14103/grmseries-highdielectrictype-eng-14103750.pdf?src-supplier=Distrelec; ComponentLink9Description: https://datasheet.ciiva.com/14103/grmseries-highdielectrictype-eng-14103750.pdf?src-supplier=Distrelec; ComponentLink10URL: https://datasheet.ciiva.com/14116/grmseries-highdielectrictype-eng-14116878.pdf?src-supplier=Distrelec; ComponentLink10Description: https://datasheet.ciiva.com/14116/grmseries-highdielectrictype-eng-14116878.pdf?src-supplier=Distrelec; Supplier Part Number 1: 5964861
footprint GRM155R71C104KA88D
pins: 1, 2

## GRM1555C1H8R0DZ01D
designator C?, comment 8pF
Cap Ceramic 8pF 50V C0G 0.5pF SMD 0402 125°C Paper T/R; Manufacturer: Murata; Manufacturer Part Number: GRM1555C1H8R0DZ01D; Supplier: CXDA Electronics; Supplier Part Number: GRM1555C1H8R0DZ01D; RoHS: Yes; Category: Ceramic Capacitors; Stock: 59869; Pricing: 10=0,05, 100=0,04, 1000=0,04, 10000=0,04 (USD); Mounting Technology: Surface Mount; Case/Package: 0402; Case Code (Metric): 1005; Case Code (Imperial): 0402; Min Operating Temperature: -55°C; Max Operating Temperature: 125°C; Value: 8pF; Voltage Rating: 50V; Packaging: Tape and Reel; Package Quantity: 10000; Dielectric: C0G; Termination: SMD/SMT; Voltage Rating (DC): 50V; Series: GRM; Construction: Flat; Length: 1mm; Width: 0.02inch; Height: 0.5mm; Thickness: 0.022inch; Depth: 0.5mm; Radiation Hardening: No; Lead Free: Lead Free; RoHS Compliant: Yes; ComponentLink1URL: https://datasheet.ciiva.com/3778/8361grm1555c1h8r0dz0123-3778464.pdf?src-supplier=Arrow+Electronics; ComponentLink1Description: https://datasheet.ciiva.com/3778/8361grm1555c1h8r0dz0123-3778464.pdf?src-supplier=Arrow+Electronics; ComponentLink2URL: https://datasheet.ciiva.com/5413/product-5413574.pdf?src-supplier=Mouser; ComponentLink2Description: https://datasheet.ciiva.com/5413/product-5413574.pdf?src-supplier=Mouser; ComponentLink3URL: https://datasheet.ciiva.com/11610/product-11610154.pdf?src-supplier=Avnet; ComponentLink3Description: https://datasheet.ciiva.com/11610/product-11610154.pdf?src-supplier=Avnet
footprint GRM1555C1H8R0DZ01D
pins: 1, 2

## IRF7101TRPBF
designator U?, comment IRF7101
IRF7101PBF Dual N-channel MOSFET Transistor; 3.5 A; 20 V; 8-Pin SOIC; Manufacturer: International Rectifier; Manufacturer Part Number: IRF7101TRPBF; Continuous Drain Current (ID): 3.5A; Input Capacitance: 320pF; Max Power Dissipation: 2W; Gate to Source Voltage (Vgs): 12V; Drain to Source Voltage (Vdss): 20V; Turn-On Delay Time: 7ns; Turn-Off Delay Time: 24ns; Rds On Max: 100mR; FET Type: 2 N-Channel; Supplier 1: Allied Electronics; RoHS: Yes; Mount: Surface Mount; Case/Package: SOIC; Number of Pins: 8; Min Operating Temperature: -55°C; Max Operating Temperature: 150°C; Packaging: Cut Tape; Package Quantity: 1; Voltage Rating (DC): 20V; Current Rating: 3.5A; Series: HEXFET®; Drain-source On Resistance-Max: 100mR; Length: 5mm; Width: 4mm; Height: 1.5mm; RoHS Compliant: Yes; Lead Free: Lead Free; ComponentLink1URL: https://datasheet.ciiva.com/6385/irf7101pbf-6385610.pdf?src-supplier=Digikey; ComponentLink1Description: https://datasheet.ciiva.com/6385/irf7101pbf-6385610.pdf?src-supplier=Digikey; ComponentLink2URL: https://datasheet.ciiva.com/6385/irf7101pbf-6385613.pdf?src-supplier=Digikey; ComponentLink2Description: https://datasheet.ciiva.com/6385/irf7101pbf-6385613.pdf?src-supplier=Digikey; ComponentLink3URL: https://datasheet.ciiva.com/6385/irf7101pbf-6385615.pdf?src-supplier=Digikey; ComponentLink3Description: https://datasheet.ciiva.com/6385/irf7101pbf-6385615.pdf?src-supplier=Digikey; ComponentLink4URL: https://datasheet.ciiva.com/16359/irf7101pbf-16359627.pdf?src-supplier=Future+Electronics; ComponentLink4Description: https://datasheet.ciiva.com/16359/irf7101pbf-16359627.pdf?src-supplier=Future+Electronics; Supplier Part Number 1: 70016974
footprint IRF7101TRPBF (SOIC, 8-Leads, Body 4,90x3,90mm, Pitch 1,27mm, IPC Low Density)
pins: 1 S1, 2 G1, 3 S2, 4 G2, 5 D2, 6 D2, 7 D1, 8 D1

## LNJ314G8TRA
designator D?  (value not drawn)
Led SMT Grn Cut Tapes; Manufacturer: Panasonic SSG; Manufacturer Part Number: LNJ314G8TRA; Color: Green; Forward Current: 10mA; Forward Voltage: 2.03V; Luminous Intensity: 5mcd; Power Rating: 40mW; Lens Style: Flat,Rectangular; Wavelength: 565nm; Number of LEDs: 1; Lens Size: 0.8mm; Supplier 1: Ampacity Systems; RoHS: Yes; Category: LEDs; Stock 1: 450; Pricing 1: 1=1,03385 (USD); Mount: Surface Mount; Case/Package: 0603; Number of Pins: 2; Case Code (Metric): 1608; Case Code (Imperial): 0603; Min Operating Temperature: -30°C; Max Operating Temperature: 85°C; Packaging: Tape and Reel; Illumination Color: Green; Test Current: 10mA; Series: -; Length: 1.6mm; Width: 0.8mm; Height: 0.5mm; Radiation Hardening: No; Lead Free: Lead Free; RoHS Compliant: Yes; ComponentLink1URL: https://datasheet.ciiva.com/9326/lnj314g8tra-bek-discon-9326750.pdf?src-supplier=Avnet; ComponentLink1Description: https://datasheet.ciiva.com/9326/lnj314g8tra-bek-discon-9326750.pdf?src-supplier=Avnet; Supplier Part Number 1: LNJ314G8TRA
footprint LNJ314G8TRA
pins: 1, 2

## MAX3232IPWR
designator U?  (value not drawn)
IC DRVR/RCVR MLTCH RS232 16TSSOP; Manufacturer: Texas Instruments; Manufacturer Part Number: MAX3232IPWR; Data Rate: 250Kbps; Number of Receivers: 2; Operating Supply Voltage: 5V; Logic Function: Transceiver,Receiver; Max Supply Voltage: 5.5V; Min Supply Voltage: 3V; Number of Transceivers: 1; Supply Current: 1mA; Simplex/Duplex: Full Duplex; Supplier 1: Mouser; RoHS: Yes; Category: Interface ICs; Stock 1: 72064; Pricing 1: 1=0,85, 10=0,546, 50=0,546, 100=0,447, 1000=0,413, 10000=0,37 (USD); Mount: Surface Mount; Case/Package: TSSOP; Number of Pins: 16; Weight: 0.002183oz; Min Operating Temperature: -40°C; Max Operating Temperature: 85°C; Number of Transmitters: 2; Package Quantity: 1; Packaging: Tape and Reel; Number of Drivers: 2; Series: -; Operating Supply Current: 1mA; Lead Free: Lead Free; RoHS Compliant: Yes; Reach SVHC Compliant: No; ComponentLink1URL: https://datasheet.ciiva.com/1702/max3232-1702050.pdf?src-supplier=Digikey; ComponentLink1Description: https://datasheet.ciiva.com/1702/max3232-1702050.pdf?src-supplier=Digikey; ComponentLink2URL: https://datasheet.ciiva.com/1702/max3232-1702051.pdf?src-supplier=Digikey; ComponentLink2Description: https://datasheet.ciiva.com/1702/max3232-1702051.pdf?src-supplier=Digikey; ComponentLink3URL: https://datasheet.ciiva.com/1702/max3232-1702052.pdf?src-supplier=Digikey; ComponentLink3Description: https://datasheet.ciiva.com/1702/max3232-1702052.pdf?src-supplier=Digikey; ComponentLink4URL: https://datasheet.ciiva.com/8064/1882754-8064747.pdf?src-supplier=Element14; ComponentLink4Description: https://datasheet.ciiva.com/8064/1882754-8064747.pdf?src-supplier=Element14; ComponentLink5URL: https://datasheet.ciiva.com/46384/1882754-46384398.pdf?src-supplier=Element14; ComponentLink5Description: https://datasheet.ciiva.com/46384/1882754-46384398.pdf?src-supplier=Element14; ComponentLink6URL: https://datasheet.ciiva.com/48709/001047902-da-01-en-ic-drv-rx-mulch-max3232ipwr-tssop-16-tid-48709190.pdf?src-supplier=Conrad; ComponentLink6Description: https://datasheet.ciiva.com/48709/001047902-da-01-en-ic-drv-rx-mulch-max3232ipwr-tssop-16-tid-48709190.pdf?src-supplier=Conrad; Supplier Part Number 1: 595-MAX3232IPWR
footprint MAX3232IPWR (TSOP, 16-Leads, Body 5,00x4,40mm, Pitch 0,65mm, IPC Medium Density)
pins: 1 C1+, 2 V+, 3 C1-, 4 C2+, 5 C2-, 6 V-, 7 DOUT2, 8 RIN2, 9 ROUT2, 10 DIN2, 11 DIN1, 12 ROUT1, 13 RIN1, 14 DOUT1, 15 GND, 16 VCC